# EAGLE library part SDCARD-MICRO (library FansElectronics-Modul)
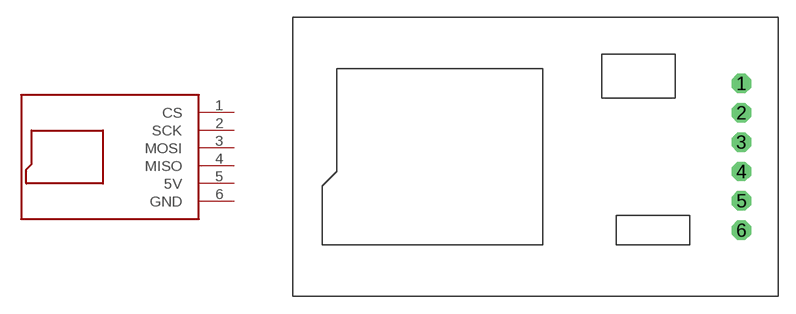
[diagram p23: symbol with the pads of SDCARD-MICRO; footprint SDCARD-MICRO]

Designator prefix MOD

## SDCARD-MICRO  [SDCARD-MICRO]
1  CS
2  SCK
3  MOSI
4  MISO
5  5V  pwr
6  GND  pwr

## Footprint SDCARD-MICRO (pad centres in mm)
drill 0.9 pad 1.676 octagon: 1 -0.635,6.35; 2 -0.635,3.81; 3 -0.635,1.27; 4 -0.635,-1.27; 5 -0.635,-3.81; 6 -0.635,-6.35